# Altium schematic symbol library 1984659.SchLib: 1 symbol
Pins are listed as number, name and electrical type; pins without a type are passive.

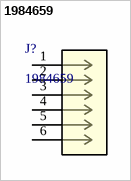
[diagram p0: symbol 1984659]

## 1984659
designator J?
PCB terminal block, nominal current: 17.5 A, nom. voltage: 200 V, pitch: 3.5 mm, number of positions: 6, connection method: Screw connection with wire protector, mounting: Wave soldering, conductor/PCB connection direction: 0 Â°, color: green; Manufacturer_Name: Phoenix Contact; Copyright: Copyright (C) 2025 Ultra Librarian. All rights reserved.; Manufacturer_Part_Number: 1984659; RefDes: RefDes; Type: Type
footprint CONN_1984659_PXC
pins: 1, 2, 3, 4, 5, 6